# EAGLE library part AVR_SPI_PROG_3X2 (library SW_Connectors)
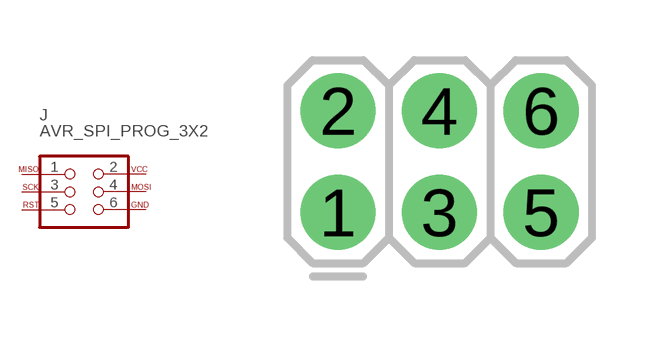
[diagram p0: symbol with the pads of 2X3-NS; footprint 2X3-NS]

Designator prefix J

## AVR_SPI_PROG_3X2 (CATEGORY: Connector; DESCRIPTION: Connector Header Through Hole 6 position 0.100" (2.54mm); MFGS: METZ CONNECT USA Inc.; MPNS: PR20203VBDN; PACKAGE: 3x2)  [2X3-NS]
1  1  pas
2  2  pas
3  3  pas
4  4  pas
5  5  pas
6  6  pas

## Footprint 2X3-NS (pad centres in mm)
Plated Through Hole - 2x3 No Silk Outline Specifications: Pin count:6 Pin pitch:0.1" Example device(s): CONN_03x2
drill 1.016 pad 1.88: 1 -2.54,-1.27; 2 -2.54,1.27; 3 0,-1.27; 4 0,1.27; 5 2.54,-1.27; 6 2.54,1.27